# Altium footprint library Common-Parts-Library.PcbLib: 530 footprints (part 1 of 34)
Each footprint in its own frame and in the unit in brackets; x right, y up, seen from the top. Pads: shape width x height; smd on the part's side, far side on the other; paste and mask are expansions set on the pad; w line width, h text height; cw(c..) or ccw(c..) is an arc to the next point about the centre after c.
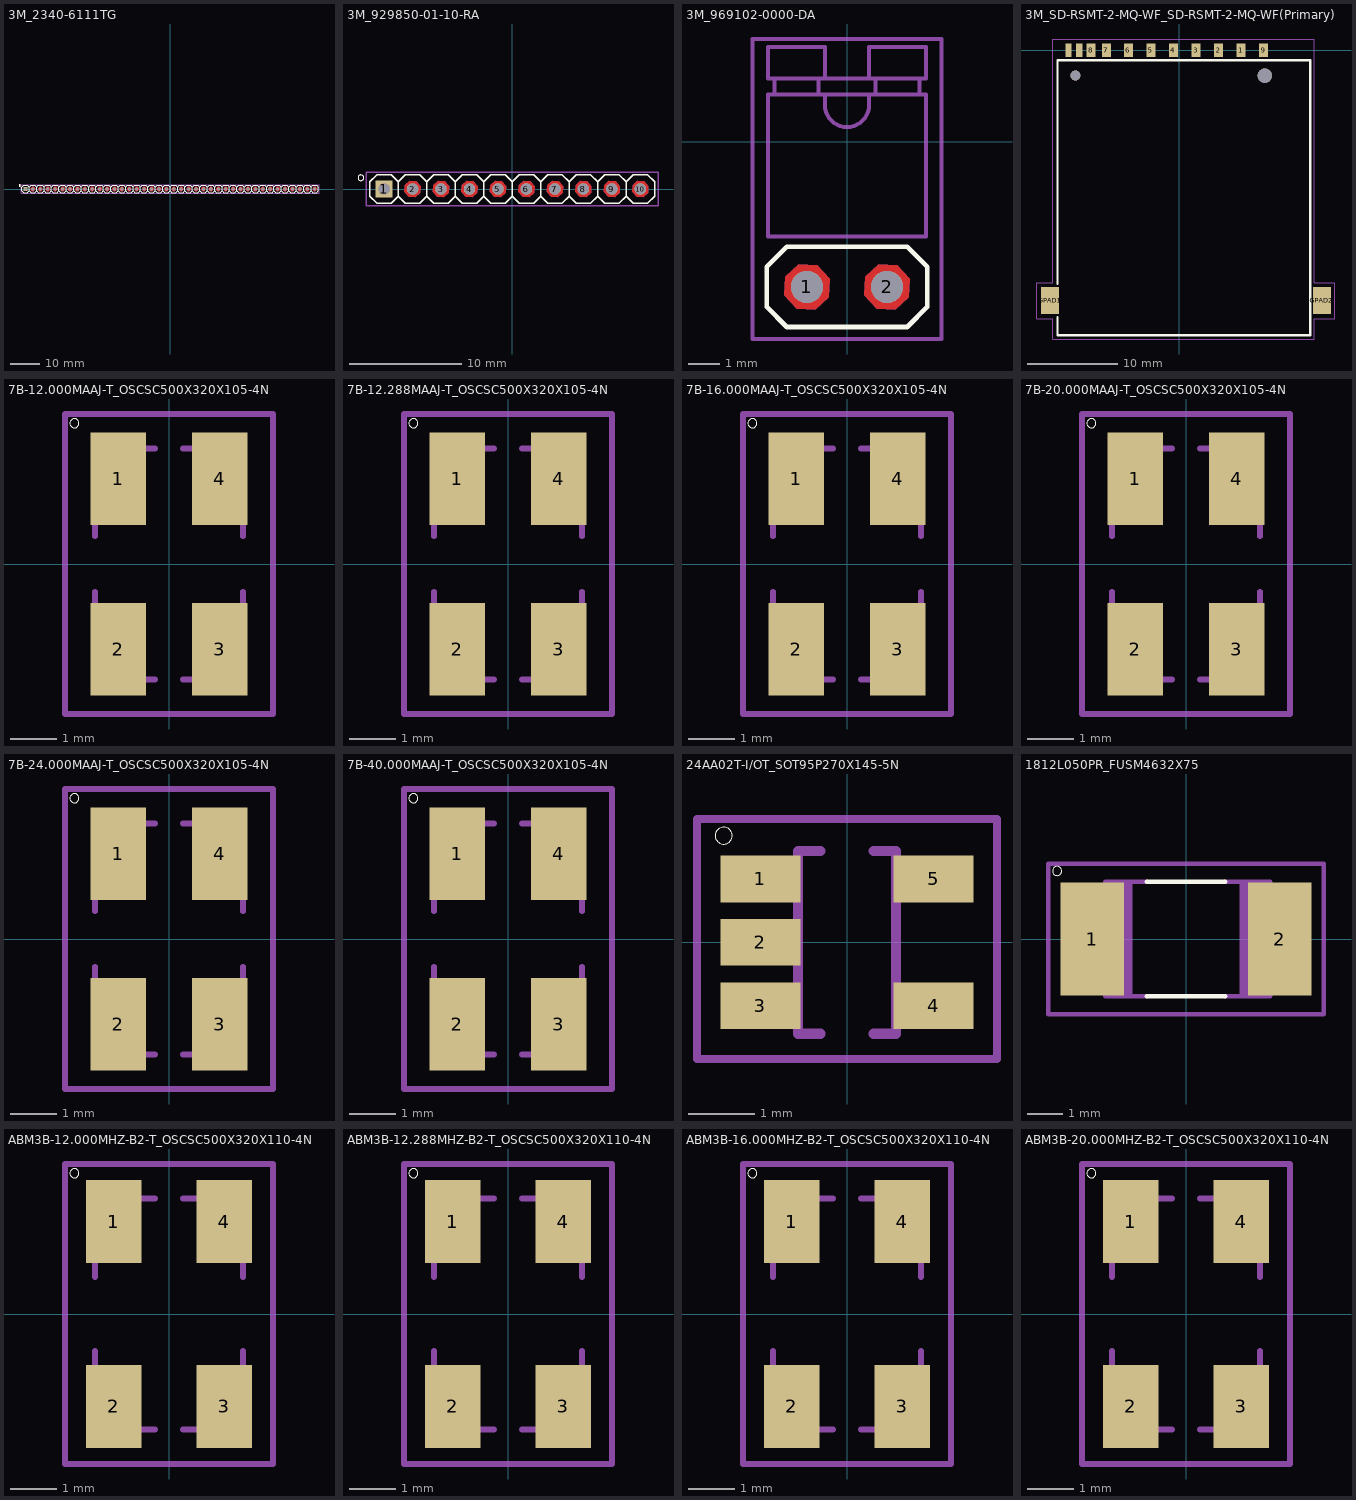
[diagram p0: the footprints below, top view; thin cyan lines are the x and y axes]

## 3M_2340-6111TG [mm]
pads (40):
  rect 1.53x1.53 hole 1.02: 1(-49.53,0)
  round 1.02 hole 1.02: 2(-46.99,0) 3(-44.45,0) 4(-41.91,0) 5(-39.37,0) 6(-36.83,0) 7(-34.29,0) 8(-31.75,0) 9(-29.21,0) 10(-26.67,0) 11(-24.13,0) 12(-21.59,0) 13(-19.05,0) 14(-16.51,0) 15(-13.97,0) 16(-11.43,0) 17(-8.89,0) 18(-6.35,0) 19(-3.81,0) 20(-1.27,0) 21(1.27,0) 22(3.81,0) 23(6.35,0) 24(8.89,0) 25(11.43,0) 26(13.97,0) 27(16.51,0) 28(19.05,0) 29(21.59,0) 30(24.13,0) 31(26.67,0) 32(29.21,0) 33(31.75,0) 34(34.29,0) 35(36.83,0) 36(39.37,0) 37(41.91,0) 38(44.45,0) 39(46.99,0) 40(49.53,0)
Top Layer:
  region: 48.811,-0.262 49.207,-0.693 49.792,-0.719 50.223,-0.323 50.249,0.262 49.853,0.693 49.268,0.719 48.837,0.323
  region: 46.271,-0.262 46.667,-0.693 47.252,-0.719 47.683,-0.323 47.709,0.262 47.313,0.693 46.728,0.719 46.297,0.323
  region: 43.731,-0.262 44.127,-0.693 44.712,-0.719 45.143,-0.323 45.169,0.262 44.773,0.693 44.188,0.719 43.757,0.323
  region: 41.191,-0.262 41.587,-0.693 42.172,-0.719 42.603,-0.323 42.629,0.262 42.233,0.693 41.648,0.719 41.217,0.323
  region: 38.651,-0.262 39.047,-0.693 39.632,-0.719 40.063,-0.323 40.089,0.262 39.693,0.693 39.108,0.719 38.677,0.323
  region: 36.111,-0.262 36.507,-0.693 37.092,-0.719 37.523,-0.323 37.549,0.262 37.153,0.693 36.568,0.719 36.137,0.323
  region: 33.571,-0.262 33.967,-0.693 34.552,-0.719 34.983,-0.323 35.009,0.262 34.613,0.693 34.028,0.719 33.597,0.323
  region: 31.031,-0.262 31.427,-0.693 32.012,-0.719 32.443,-0.323 32.469,0.262 32.073,0.693 31.488,0.719 31.057,0.323
  region: 28.491,-0.262 28.887,-0.693 29.472,-0.719 29.903,-0.323 29.929,0.262 29.533,0.693 28.948,0.719 28.517,0.323
  region: 25.951,-0.262 26.347,-0.693 26.932,-0.719 27.363,-0.323 27.389,0.262 26.993,0.693 26.408,0.719 25.977,0.323
  region: 23.411,-0.262 23.807,-0.693 24.392,-0.719 24.823,-0.323 24.849,0.262 24.453,0.693 23.868,0.719 23.437,0.323
  region: 20.871,-0.262 21.267,-0.693 21.852,-0.719 22.283,-0.323 22.309,0.262 21.913,0.693 21.328,0.719 20.897,0.323
  region: 18.331,-0.262 18.727,-0.693 19.312,-0.719 19.743,-0.323 19.769,0.262 19.373,0.693 18.788,0.719 18.357,0.323
  region: 15.791,-0.262 16.187,-0.693 16.772,-0.719 17.203,-0.323 17.229,0.262 16.833,0.693 16.248,0.719 15.817,0.323
  region: 13.251,-0.262 13.647,-0.693 14.232,-0.719 14.663,-0.323 14.689,0.262 14.293,0.693 13.708,0.719 13.277,0.323
  region: 10.711,-0.262 11.107,-0.693 11.692,-0.719 12.123,-0.323 12.149,0.262 11.753,0.693 11.168,0.719 10.737,0.323
  region: 8.171,-0.262 8.567,-0.693 9.152,-0.719 9.583,-0.323 9.609,0.262 9.213,0.693 8.628,0.719 8.197,0.323
  region: 5.631,-0.262 6.027,-0.693 6.612,-0.719 7.043,-0.323 7.069,0.262 6.673,0.693 6.088,0.719 5.657,0.323
  region: 3.091,-0.262 3.487,-0.693 4.072,-0.719 4.503,-0.323 4.529,0.262 4.133,0.693 3.548,0.719 3.117,0.323
  region: 0.551,-0.262 0.947,-0.693 1.532,-0.719 1.963,-0.323 1.989,0.262 1.593,0.693 1.008,0.719 0.577,0.323
  region: -1.989,-0.262 -1.593,-0.693 -1.008,-0.719 -0.577,-0.323 -0.551,0.262 -0.947,0.693 -1.532,0.719 -1.963,0.323
  region: -4.529,-0.262 -4.133,-0.693 -3.548,-0.719 -3.117,-0.323 -3.091,0.262 -3.487,0.693 -4.072,0.719 -4.503,0.323
  region: -7.069,-0.262 -6.673,-0.693 -6.088,-0.719 -5.657,-0.323 -5.631,0.262 -6.027,0.693 -6.612,0.719 -7.043,0.323
  region: -9.609,-0.262 -9.213,-0.693 -8.628,-0.719 -8.197,-0.323 -8.171,0.262 -8.567,0.693 -9.152,0.719 -9.583,0.323
  region: -12.149,-0.262 -11.753,-0.693 -11.168,-0.719 -10.737,-0.323 -10.711,0.262 -11.107,0.693 -11.692,0.719 -12.123,0.323
  region: -14.689,-0.262 -14.293,-0.693 -13.708,-0.719 -13.277,-0.323 -13.251,0.262 -13.647,0.693 -14.232,0.719 -14.663,0.323
  region: -17.229,-0.262 -16.833,-0.693 -16.248,-0.719 -15.817,-0.323 -15.791,0.262 -16.187,0.693 -16.772,0.719 -17.203,0.323
  region: -19.769,-0.262 -19.373,-0.693 -18.788,-0.719 -18.357,-0.323 -18.331,0.262 -18.727,0.693 -19.312,0.719 -19.743,0.323
  region: -22.309,-0.262 -21.913,-0.693 -21.328,-0.719 -20.897,-0.323 -20.871,0.262 -21.267,0.693 -21.852,0.719 -22.283,0.323
  region: -24.849,-0.262 -24.453,-0.693 -23.868,-0.719 -23.437,-0.323 -23.411,0.262 -23.807,0.693 -24.392,0.719 -24.823,0.323
  region: -27.389,-0.262 -26.993,-0.693 -26.408,-0.719 -25.977,-0.323 -25.951,0.262 -26.347,0.693 -26.932,0.719 -27.363,0.323
  region: -29.929,-0.262 -29.533,-0.693 -28.948,-0.719 -28.517,-0.323 -28.491,0.262 -28.887,0.693 -29.472,0.719 -29.903,0.323
  region: -32.469,-0.262 -32.073,-0.693 -31.488,-0.719 -31.057,-0.323 -31.031,0.262 -31.427,0.693 -32.012,0.719 -32.443,0.323
  region: -35.009,-0.262 -34.613,-0.693 -34.028,-0.719 -33.597,-0.323 -33.571,0.262 -33.967,0.693 -34.552,0.719 -34.983,0.323
  region: -37.549,-0.262 -37.153,-0.693 -36.568,-0.719 -36.137,-0.323 -36.111,0.262 -36.507,0.693 -37.092,0.719 -37.523,0.323
  region: -40.089,-0.262 -39.693,-0.693 -39.108,-0.719 -38.677,-0.323 -38.651,0.262 -39.047,0.693 -39.632,0.719 -40.063,0.323
  region: -42.629,-0.262 -42.233,-0.693 -41.648,-0.719 -41.217,-0.323 -41.191,0.262 -41.587,0.693 -42.172,0.719 -42.603,0.323
  region: -45.169,-0.262 -44.773,-0.693 -44.188,-0.719 -43.757,-0.323 -43.731,0.262 -44.127,0.693 -44.712,0.719 -45.143,0.323
  region: -47.709,-0.262 -47.313,-0.693 -46.728,-0.719 -46.297,-0.323 -46.271,0.262 -46.667,0.693 -47.252,0.719 -47.683,0.323
Bottom Layer:
  region: 48.811,-0.262 49.207,-0.693 49.792,-0.719 50.223,-0.323 50.249,0.262 49.853,0.693 49.268,0.719 48.837,0.323
  region: 46.271,-0.262 46.667,-0.693 47.252,-0.719 47.683,-0.323 47.709,0.262 47.313,0.693 46.728,0.719 46.297,0.323
  region: 43.731,-0.262 44.127,-0.693 44.712,-0.719 45.143,-0.323 45.169,0.262 44.773,0.693 44.188,0.719 43.757,0.323
  region: 41.191,-0.262 41.587,-0.693 42.172,-0.719 42.603,-0.323 42.629,0.262 42.233,0.693 41.648,0.719 41.217,0.323
  region: 38.651,-0.262 39.047,-0.693 39.632,-0.719 40.063,-0.323 40.089,0.262 39.693,0.693 39.108,0.719 38.677,0.323
  region: 36.111,-0.262 36.507,-0.693 37.092,-0.719 37.523,-0.323 37.549,0.262 37.153,0.693 36.568,0.719 36.137,0.323
  region: 33.571,-0.262 33.967,-0.693 34.552,-0.719 34.983,-0.323 35.009,0.262 34.613,0.693 34.028,0.719 33.597,0.323
  region: 31.031,-0.262 31.427,-0.693 32.012,-0.719 32.443,-0.323 32.469,0.262 32.073,0.693 31.488,0.719 31.057,0.323
  region: 28.491,-0.262 28.887,-0.693 29.472,-0.719 29.903,-0.323 29.929,0.262 29.533,0.693 28.948,0.719 28.517,0.323
  region: 25.951,-0.262 26.347,-0.693 26.932,-0.719 27.363,-0.323 27.389,0.262 26.993,0.693 26.408,0.719 25.977,0.323
  region: 23.411,-0.262 23.807,-0.693 24.392,-0.719 24.823,-0.323 24.849,0.262 24.453,0.693 23.868,0.719 23.437,0.323
  region: 20.871,-0.262 21.267,-0.693 21.852,-0.719 22.283,-0.323 22.309,0.262 21.913,0.693 21.328,0.719 20.897,0.323
  region: 18.331,-0.262 18.727,-0.693 19.312,-0.719 19.743,-0.323 19.769,0.262 19.373,0.693 18.788,0.719 18.357,0.323
  region: 15.791,-0.262 16.187,-0.693 16.772,-0.719 17.203,-0.323 17.229,0.262 16.833,0.693 16.248,0.719 15.817,0.323
  region: 13.251,-0.262 13.647,-0.693 14.232,-0.719 14.663,-0.323 14.689,0.262 14.293,0.693 13.708,0.719 13.277,0.323
  region: 10.711,-0.262 11.107,-0.693 11.692,-0.719 12.123,-0.323 12.149,0.262 11.753,0.693 11.168,0.719 10.737,0.323
  region: 8.171,-0.262 8.567,-0.693 9.152,-0.719 9.583,-0.323 9.609,0.262 9.213,0.693 8.628,0.719 8.197,0.323
  region: 5.631,-0.262 6.027,-0.693 6.612,-0.719 7.043,-0.323 7.069,0.262 6.673,0.693 6.088,0.719 5.657,0.323
  region: 3.091,-0.262 3.487,-0.693 4.072,-0.719 4.503,-0.323 4.529,0.262 4.133,0.693 3.548,0.719 3.117,0.323
  region: 0.551,-0.262 0.947,-0.693 1.532,-0.719 1.963,-0.323 1.989,0.262 1.593,0.693 1.008,0.719 0.577,0.323
  region: -1.989,-0.262 -1.593,-0.693 -1.008,-0.719 -0.577,-0.323 -0.551,0.262 -0.947,0.693 -1.532,0.719 -1.963,0.323
  region: -4.529,-0.262 -4.133,-0.693 -3.548,-0.719 -3.117,-0.323 -3.091,0.262 -3.487,0.693 -4.072,0.719 -4.503,0.323
  region: -7.069,-0.262 -6.673,-0.693 -6.088,-0.719 -5.657,-0.323 -5.631,0.262 -6.027,0.693 -6.612,0.719 -7.043,0.323
  region: -9.609,-0.262 -9.213,-0.693 -8.628,-0.719 -8.197,-0.323 -8.171,0.262 -8.567,0.693 -9.152,0.719 -9.583,0.323
  region: -12.149,-0.262 -11.753,-0.693 -11.168,-0.719 -10.737,-0.323 -10.711,0.262 -11.107,0.693 -11.692,0.719 -12.123,0.323
  region: -14.689,-0.262 -14.293,-0.693 -13.708,-0.719 -13.277,-0.323 -13.251,0.262 -13.647,0.693 -14.232,0.719 -14.663,0.323
  region: -17.229,-0.262 -16.833,-0.693 -16.248,-0.719 -15.817,-0.323 -15.791,0.262 -16.187,0.693 -16.772,0.719 -17.203,0.323
  region: -19.769,-0.262 -19.373,-0.693 -18.788,-0.719 -18.357,-0.323 -18.331,0.262 -18.727,0.693 -19.312,0.719 -19.743,0.323
  region: -22.309,-0.262 -21.913,-0.693 -21.328,-0.719 -20.897,-0.323 -20.871,0.262 -21.267,0.693 -21.852,0.719 -22.283,0.323
  region: -24.849,-0.262 -24.453,-0.693 -23.868,-0.719 -23.437,-0.323 -23.411,0.262 -23.807,0.693 -24.392,0.719 -24.823,0.323
  region: -27.389,-0.262 -26.993,-0.693 -26.408,-0.719 -25.977,-0.323 -25.951,0.262 -26.347,0.693 -26.932,0.719 -27.363,0.323
  region: -29.929,-0.262 -29.533,-0.693 -28.948,-0.719 -28.517,-0.323 -28.491,0.262 -28.887,0.693 -29.472,0.719 -29.903,0.323
  region: -32.469,-0.262 -32.073,-0.693 -31.488,-0.719 -31.057,-0.323 -31.031,0.262 -31.427,0.693 -32.012,0.719 -32.443,0.323
  region: -35.009,-0.262 -34.613,-0.693 -34.028,-0.719 -33.597,-0.323 -33.571,0.262 -33.967,0.693 -34.552,0.719 -34.983,0.323
  region: -37.549,-0.262 -37.153,-0.693 -36.568,-0.719 -36.137,-0.323 -36.111,0.262 -36.507,0.693 -37.092,0.719 -37.523,0.323
  region: -40.089,-0.262 -39.693,-0.693 -39.108,-0.719 -38.677,-0.323 -38.651,0.262 -39.047,0.693 -39.632,0.719 -40.063,0.323
  region: -42.629,-0.262 -42.233,-0.693 -41.648,-0.719 -41.217,-0.323 -41.191,0.262 -41.587,0.693 -42.172,0.719 -42.603,0.323
  region: -45.169,-0.262 -44.773,-0.693 -44.188,-0.719 -43.757,-0.323 -43.731,0.262 -44.127,0.693 -44.712,0.719 -45.143,0.323
  region: -47.709,-0.262 -47.313,-0.693 -46.728,-0.719 -46.297,-0.323 -46.271,0.262 -46.667,0.693 -47.252,0.719 -47.683,0.323
Top Overlay:
  drawing of 282 lines, arcs and shapes, not listed
Mechanical 1:
  drawing of 44 lines, arcs and shapes, not listed
Multi-Layer:
  drawing of 39 lines, arcs and shapes, not listed

## 3M_929850-01-10-RA [mm]
pads (10):
  rect 1.53x1.53 hole 1.02: 1(-11.43,0)
  round 1.02 hole 1.02: 2(-8.89,0) 3(-6.35,0) 4(-3.81,0) 5(-1.27,0) 6(1.27,0) 7(3.81,0) 8(6.35,0) 9(8.89,0) 10(11.43,0)
Top Layer:
  region: 10.711,-0.262 11.107,-0.693 11.692,-0.719 12.123,-0.323 12.149,0.262 11.753,0.693 11.168,0.719 10.737,0.323
  region: 8.171,-0.262 8.567,-0.693 9.152,-0.719 9.583,-0.323 9.609,0.262 9.213,0.693 8.628,0.719 8.197,0.323
  region: 5.631,-0.262 6.027,-0.693 6.612,-0.719 7.043,-0.323 7.069,0.262 6.673,0.693 6.088,0.719 5.657,0.323
  region: 3.091,-0.262 3.487,-0.693 4.072,-0.719 4.503,-0.323 4.529,0.262 4.133,0.693 3.548,0.719 3.117,0.323
  region: 0.551,-0.262 0.947,-0.693 1.532,-0.719 1.963,-0.323 1.989,0.262 1.593,0.693 1.008,0.719 0.577,0.323
  region: -1.989,-0.262 -1.593,-0.693 -1.008,-0.719 -0.577,-0.323 -0.551,0.262 -0.947,0.693 -1.532,0.719 -1.963,0.323
  region: -4.529,-0.262 -4.133,-0.693 -3.548,-0.719 -3.117,-0.323 -3.091,0.262 -3.487,0.693 -4.072,0.719 -4.503,0.323
  region: -7.069,-0.262 -6.673,-0.693 -6.088,-0.719 -5.657,-0.323 -5.631,0.262 -6.027,0.693 -6.612,0.719 -7.043,0.323
  region: -9.609,-0.262 -9.213,-0.693 -8.628,-0.719 -8.197,-0.323 -8.171,0.262 -8.567,0.693 -9.152,0.719 -9.583,0.323
Bottom Layer:
  region: 10.711,-0.262 11.107,-0.693 11.692,-0.719 12.123,-0.323 12.149,0.262 11.753,0.693 11.168,0.719 10.737,0.323
  region: 8.171,-0.262 8.567,-0.693 9.152,-0.719 9.583,-0.323 9.609,0.262 9.213,0.693 8.628,0.719 8.197,0.323
  region: 5.631,-0.262 6.027,-0.693 6.612,-0.719 7.043,-0.323 7.069,0.262 6.673,0.693 6.088,0.719 5.657,0.323
  region: 3.091,-0.262 3.487,-0.693 4.072,-0.719 4.503,-0.323 4.529,0.262 4.133,0.693 3.548,0.719 3.117,0.323
  region: 0.551,-0.262 0.947,-0.693 1.532,-0.719 1.963,-0.323 1.989,0.262 1.593,0.693 1.008,0.719 0.577,0.323
  region: -1.989,-0.262 -1.593,-0.693 -1.008,-0.719 -0.577,-0.323 -0.551,0.262 -0.947,0.693 -1.532,0.719 -1.963,0.323
  region: -4.529,-0.262 -4.133,-0.693 -3.548,-0.719 -3.117,-0.323 -3.091,0.262 -3.487,0.693 -4.072,0.719 -4.503,0.323
  region: -7.069,-0.262 -6.673,-0.693 -6.088,-0.719 -5.657,-0.323 -5.631,0.262 -6.027,0.693 -6.612,0.719 -7.043,0.323
  region: -9.609,-0.262 -9.213,-0.693 -8.628,-0.719 -8.197,-0.323 -8.171,0.262 -8.567,0.693 -9.152,0.719 -9.583,0.323
Top Overlay:
  circle w0: c-13.5,1 r0.254
  lines w0.152: -10.16,-0.635 -9.525,-1.27 -8.255,-1.27 -7.62,-0.635 ; -10.16,-0.635 -10.795,-1.27 -12.065,-1.27 -12.7,-0.635 -12.7,0.635 -12.065,1.27 -10.795,1.27 -10.16,0.635 ; -10.16,-0.635 -10.16,0.635 ; -10.16,0.635 -9.525,1.27 -8.255,1.27 -7.62,0.635 ; -7.62,-0.635 -7.62,0.635 ; -7.62,-0.635 -6.985,-1.27 -5.715,-1.27 -5.08,-0.635 ; -7.62,0.635 -6.985,1.27 -5.715,1.27 -5.08,0.635 ; -5.08,-0.635 -4.445,-1.27 -3.175,-1.27 -2.54,-0.635 ; -5.08,-0.635 -5.08,0.635 ; -5.08,0.635 -4.445,1.27 -3.175,1.27 -2.54,0.635 ; -2.54,-0.635 -1.905,-1.27 -0.635,-1.27 0,-0.635 ; -2.54,-0.635 -2.54,0.635 ; -2.54,0.635 -1.905,1.27 -0.635,1.27 0,0.635 ; 0,-0.635 0,0.635 ; 0,-0.635 0.635,-1.27 1.905,-1.27 2.54,-0.635 ; 0,0.635 0.635,1.27 1.905,1.27 2.54,0.635 ; 2.54,-0.635 3.175,-1.27 4.445,-1.27 5.08,-0.635 ; 2.54,-0.635 2.54,0.635 ; 2.54,0.635 3.175,1.27 4.445,1.27 5.08,0.635 ; 5.08,-0.635 5.715,-1.27 6.985,-1.27 7.62,-0.635 ; 5.08,-0.635 5.08,0.635 ; 5.08,0.635 5.715,1.27 6.985,1.27 7.62,0.635 ; 7.62,-0.635 7.62,0.635 ; 7.62,-0.635 8.255,-1.27 9.525,-1.27 10.16,-0.635 ; 7.62,0.635 8.255,1.27 9.525,1.27 10.16,0.635 ; 10.16,-0.635 10.795,-1.27 12.065,-1.27 12.7,-0.635 12.7,0.635 12.065,1.27 10.795,1.27 10.16,0.635 ; 10.16,-0.635 10.16,0.635
Mechanical 1:
  region: 11.202,0.254 11.684,0.254 11.684,-0.255 11.202,-0.255
  region: -11.702,0.254 -11.176,0.254 -11.176,-0.254 -11.702,-0.254
  region: -9.172,0.254 -8.636,0.254 -8.636,-0.255 -9.172,-0.255
  region: -6.614,0.254 -6.096,0.254 -6.096,-0.254 -6.614,-0.254
  region: -4.074,0.254 -3.556,0.254 -3.556,-0.255 -4.074,-0.255
  region: -1.529,0.254 -1.016,0.254 -1.016,-0.255 -1.529,-0.255
  region: 1.018,0.254 1.524,0.254 1.524,-0.255 1.018,-0.255
  region: 3.562,0.254 4.064,0.254 4.064,-0.254 3.562,-0.254
  region: 6.107,0.254 6.604,0.254 6.604,-0.254 6.107,-0.254
  region: 8.65,0.254 9.144,0.254 9.144,-0.254 8.65,-0.254
  lines w0.127: -13,-1.5 -13,1.5 13,1.5 13,-1.5 -13,-1.5
Multi-Layer:
  region: 10.711,-0.262 11.107,-0.693 11.692,-0.719 12.123,-0.323 12.149,0.262 11.753,0.693 11.168,0.719 10.737,0.323
  region: 8.171,-0.262 8.567,-0.693 9.152,-0.719 9.583,-0.323 9.609,0.262 9.213,0.693 8.628,0.719 8.197,0.323
  region: 5.631,-0.262 6.027,-0.693 6.612,-0.719 7.043,-0.323 7.069,0.262 6.673,0.693 6.088,0.719 5.657,0.323
  region: 3.091,-0.262 3.487,-0.693 4.072,-0.719 4.503,-0.323 4.529,0.262 4.133,0.693 3.548,0.719 3.117,0.323
  region: 0.551,-0.262 0.947,-0.693 1.532,-0.719 1.963,-0.323 1.989,0.262 1.593,0.693 1.008,0.719 0.577,0.323
  region: -1.989,-0.262 -1.593,-0.693 -1.008,-0.719 -0.577,-0.323 -0.551,0.262 -0.947,0.693 -1.532,0.719 -1.963,0.323
  region: -4.529,-0.262 -4.133,-0.693 -3.548,-0.719 -3.117,-0.323 -3.091,0.262 -3.487,0.693 -4.072,0.719 -4.503,0.323
  region: -7.069,-0.262 -6.673,-0.693 -6.088,-0.719 -5.657,-0.323 -5.631,0.262 -6.027,0.693 -6.612,0.719 -7.043,0.323
  region: -9.609,-0.262 -9.213,-0.693 -8.628,-0.719 -8.197,-0.323 -8.171,0.262 -8.567,0.693 -9.152,0.719 -9.583,0.323

## 3M_969102-0000-DA [mil]
pads (2):
  round 40 hole 40: 1(-50,-181.1) 2(50,-181.1)
Top Layer:
  region: -78.19,-191.36 -62.68,-208.29 -39.74,-209.29 -22.81,-193.78 -21.81,-170.84 -37.32,-153.91 -60.26,-152.91 -77.19,-168.42
  region: 21.81,-191.36 37.32,-208.29 60.26,-209.29 77.19,-193.78 78.19,-170.84 62.68,-153.91 39.74,-152.91 22.81,-168.42
Bottom Layer:
  region: -78.19,-191.36 -62.68,-208.29 -39.74,-209.29 -22.81,-193.78 -21.81,-170.84 -37.32,-153.91 -60.26,-152.91 -77.19,-168.42
  region: 21.81,-191.36 37.32,-208.29 60.26,-209.29 77.19,-193.78 78.19,-170.84 62.68,-153.91 39.74,-152.91 22.81,-168.42
Top Overlay:
  lines w6: -100,-206.1 -100,-156.1 -75,-131.1 75,-131.1 100,-156.1 100,-206.1 75,-231.1 -75,-231.1 -100,-206.1
Mechanical 1:
  region: -60.18,-191.28 -60.18,-171.2 -39.91,-171.2 -39.91,-191.28
  region: 39.87,-191.23 39.87,-171.3 60.19,-171.3 60.19,-191.23
  lines w5: -90.55,59.06 -35.43,59.06 ; -90.55,59.06 -98.43,59.06 -98.43,-118.11 98.43,-118.11 98.43,59.06 90.55,59.06 ; -90.55,59.06 -90.55,78.74 ; -90.55,78.74 -35.43,78.74 ; -90.55,78.74 -98.43,78.74 -98.43,118.11 -27.56,118.11 -27.56,78.74 ; -35.43,59.06 -35.43,78.74 ; -35.43,59.06 -27.56,59.06 ; -35.43,78.74 -27.56,78.74 ; -27.56,59.06 27.56,59.06 ; -27.56,59.06 -27.56,45.67 ccw(c0,45.67) 0,18.11 ccw(c0,45.67) 27.56,45.67 27.56,59.06 ; -27.56,78.74 27.56,78.74 ; 27.56,59.06 35.43,59.06 ; 27.56,78.74 35.43,78.74 ; 27.56,78.74 27.56,118.11 98.43,118.11 98.43,78.74 90.55,78.74 ; 35.43,59.06 35.43,78.74 ; 35.43,59.06 90.55,59.06 ; 35.43,78.74 90.55,78.74 ; 90.55,59.06 90.55,78.74 ; -118.11,-246.06 -118.11,127.95 118.11,127.95 118.11,-246.06 -118.11,-246.06
Multi-Layer:
  region: -78.19,-191.36 -62.68,-208.29 -39.74,-209.29 -22.81,-193.78 -21.81,-170.84 -37.32,-153.91 -60.26,-152.91 -77.19,-168.42
  region: 21.81,-191.36 37.32,-208.29 60.26,-209.29 77.19,-193.78 78.19,-170.84 62.68,-153.91 39.74,-152.91 22.81,-168.42

## 3M_SD-RSMT-2-MQ-WF_SD-RSMT-2-MQ-WF(Primary) [mm]
pads (15):
  rect 1x1.5 smd: 1(6.88,0) 2(4.38,0) 3(1.88,0) 4(-0.62,0) 5(-3.12,0) 6(-5.62,0) 7(-8.05,0) 8(-9.75,0) 9(9.38,0)
  rect 0.7x1.5 smd: CDI(-11.05,0) WP(-12.25,0)
  rect 2x3 smd: GPAD1(-14.28,-27.75) GPAD2(15.82,-27.75)
  round 1.1 hole 1.1 unplated: None(-11.5,-2.8)
  round 1.6 hole 1.6 unplated: None(9.5,-2.8)
Top Overlay:
  lines w0.254: -13.47,-29.6 -13.47,-31.6 14.53,-31.6 14.53,-1.1 -13.47,-1.1 -13.47,-25.9
Mechanical 1:
  lines w0.127: -15.75,-29.75 -14,-29.75 -14,-32 15,-32 15,-29.75 17.25,-29.75 17.25,-25.75 15,-25.75 15,1.25 -14,1.25 -14,-25.75 -15.75,-25.75 -15.75,-29.75

## 7B-12.000MAAJ-T_OSCSC500X320X105-4N [mm]
pads (4):
  rect 1.2x2 smd: 1(-1.1,1.85) 2(-1.1,-1.85) 3(1.1,-1.85) 4(1.1,1.85)
Top Overlay:
  circle w0: c-2.05,3.05 r0.1
Mechanical 1:
  lines w0.127: -1.6,-0.6 -1.6,-2.2 cw(c-1.6,-2.5) -1.3,-2.5 -0.3,-2.5 ; -1.6,0.6 -1.6,2.2 ccw(c-1.6,2.5) -1.3,2.5 -0.3,2.5 ; 0.3,-2.5 1.3,-2.5 cw(c1.6,-2.5) 1.6,-2.2 1.6,-0.6 ; 0.3,2.5 1.3,2.5 ccw(c1.6,2.5) 1.6,2.2 1.6,0.6 ; -2.25,-3.25 2.25,-3.25 2.25,3.25 -2.25,3.25 -2.25,-3.25

## 7B-12.288MAAJ-T_OSCSC500X320X105-4N [mm]
pads (4):
  rect 1.2x2 smd: 1(-1.1,1.85) 2(-1.1,-1.85) 3(1.1,-1.85) 4(1.1,1.85)
Top Overlay:
  circle w0: c-2.05,3.05 r0.1
Mechanical 1:
  lines w0.127: -1.6,-0.6 -1.6,-2.2 cw(c-1.6,-2.5) -1.3,-2.5 -0.3,-2.5 ; -1.6,0.6 -1.6,2.2 ccw(c-1.6,2.5) -1.3,2.5 -0.3,2.5 ; 0.3,-2.5 1.3,-2.5 cw(c1.6,-2.5) 1.6,-2.2 1.6,-0.6 ; 0.3,2.5 1.3,2.5 ccw(c1.6,2.5) 1.6,2.2 1.6,0.6 ; -2.25,-3.25 2.25,-3.25 2.25,3.25 -2.25,3.25 -2.25,-3.25

## 7B-16.000MAAJ-T_OSCSC500X320X105-4N [mm]
pads (4):
  rect 1.2x2 smd: 1(-1.1,1.85) 2(-1.1,-1.85) 3(1.1,-1.85) 4(1.1,1.85)
Top Overlay:
  circle w0: c-2.05,3.05 r0.1
Mechanical 1:
  lines w0.127: -1.6,-0.6 -1.6,-2.2 cw(c-1.6,-2.5) -1.3,-2.5 -0.3,-2.5 ; -1.6,0.6 -1.6,2.2 ccw(c-1.6,2.5) -1.3,2.5 -0.3,2.5 ; 0.3,-2.5 1.3,-2.5 cw(c1.6,-2.5) 1.6,-2.2 1.6,-0.6 ; 0.3,2.5 1.3,2.5 ccw(c1.6,2.5) 1.6,2.2 1.6,0.6 ; -2.25,-3.25 2.25,-3.25 2.25,3.25 -2.25,3.25 -2.25,-3.25

## 7B-20.000MAAJ-T_OSCSC500X320X105-4N [mm]
pads (4):
  rect 1.2x2 smd: 1(-1.1,1.85) 2(-1.1,-1.85) 3(1.1,-1.85) 4(1.1,1.85)
Top Overlay:
  circle w0: c-2.05,3.05 r0.1
Mechanical 1:
  lines w0.127: -1.6,-0.6 -1.6,-2.2 cw(c-1.6,-2.5) -1.3,-2.5 -0.3,-2.5 ; -1.6,0.6 -1.6,2.2 ccw(c-1.6,2.5) -1.3,2.5 -0.3,2.5 ; 0.3,-2.5 1.3,-2.5 cw(c1.6,-2.5) 1.6,-2.2 1.6,-0.6 ; 0.3,2.5 1.3,2.5 ccw(c1.6,2.5) 1.6,2.2 1.6,0.6 ; -2.25,-3.25 2.25,-3.25 2.25,3.25 -2.25,3.25 -2.25,-3.25

## 7B-24.000MAAJ-T_OSCSC500X320X105-4N [mm]
pads (4):
  rect 1.2x2 smd: 1(-1.1,1.85) 2(-1.1,-1.85) 3(1.1,-1.85) 4(1.1,1.85)
Top Overlay:
  circle w0: c-2.05,3.05 r0.1
Mechanical 1:
  lines w0.127: -1.6,-0.6 -1.6,-2.2 cw(c-1.6,-2.5) -1.3,-2.5 -0.3,-2.5 ; -1.6,0.6 -1.6,2.2 ccw(c-1.6,2.5) -1.3,2.5 -0.3,2.5 ; 0.3,-2.5 1.3,-2.5 cw(c1.6,-2.5) 1.6,-2.2 1.6,-0.6 ; 0.3,2.5 1.3,2.5 ccw(c1.6,2.5) 1.6,2.2 1.6,0.6 ; -2.25,-3.25 2.25,-3.25 2.25,3.25 -2.25,3.25 -2.25,-3.25

## 7B-40.000MAAJ-T_OSCSC500X320X105-4N [mm]
pads (4):
  rect 1.2x2 smd: 1(-1.1,1.85) 2(-1.1,-1.85) 3(1.1,-1.85) 4(1.1,1.85)
Top Overlay:
  circle w0: c-2.05,3.05 r0.1
Mechanical 1:
  lines w0.127: -1.6,-0.6 -1.6,-2.2 cw(c-1.6,-2.5) -1.3,-2.5 -0.3,-2.5 ; -1.6,0.6 -1.6,2.2 ccw(c-1.6,2.5) -1.3,2.5 -0.3,2.5 ; 0.3,-2.5 1.3,-2.5 cw(c1.6,-2.5) 1.6,-2.2 1.6,-0.6 ; 0.3,2.5 1.3,2.5 ccw(c1.6,2.5) 1.6,2.2 1.6,0.6 ; -2.25,-3.25 2.25,-3.25 2.25,3.25 -2.25,3.25 -2.25,-3.25

## 24AA02T-I/OT_SOT95P270X145-5N [mm]
pads (5):
  rect 1.2x0.7 smd: 1(-1.3,0.95) 2(-1.3,0) 3(-1.3,-0.95) 4(1.3,-0.95) 5(1.3,0.95)
Top Overlay:
  circle w0: c-1.85,1.6 r0.127
Mechanical 1:
  region: 1.425,1.2 1.425,0.702 0.777,0.702 0.777,1.2
  region: 1.427,-0.702 1.427,-1.2 0.775,-1.2 0.775,-0.702
  region: -0.775,-0.7 -0.775,-1.203 -1.428,-1.203 -1.428,-0.7
  region: -0.775,0.25 -0.775,-0.251 -1.426,-0.251 -1.426,0.25
  region: -0.777,1.202 -0.777,0.699 -1.426,0.699 -1.426,1.202
  lines w0.127: -2.25,-1.75 2.25,-1.75 2.25,1.85 -2.25,1.85 -2.25,-1.75
  lines w0.152: -0.735,-1.372 -0.735,1.372 ; -0.7,-1.372 -0.4,-1.372 ; -0.7,1.372 -0.4,1.372 ; 0.4,-1.372 0.7,-1.372 ; 0.4,1.372 0.7,1.372 ; 0.735,-1.372 0.735,1.372

## 1812L050PR_FUSM4632X75 [mm]
pads (2):
  rect 1.78x3.15 smd: 1(-2.615,0) 2(2.615,0)
Top Overlay:
  circle w0: c-3.6,1.9 r0.127
  lines w0.127: -1.1,-1.6 1.1,-1.6 ; -1.1,1.6 1.1,1.6
Mechanical 1:
  region: 1.5,1.6 1.5,-1.6 2.35,-1.6 2.35,-0.5 2.337,-0.5 2.311,-0.499 2.285,-0.496 2.259,-0.492 2.233,-0.486 2.208,-0.48 2.183,-0.471 2.159,-0.462 2.135,-0.451 2.111,-0.44 2.089,-0.426 2.067,-0.412 2.046,-0.397 2.025,-0.38 2.006,-0.363 1.987,-0.344 1.97,-0.325 1.953,-0.304 1.938,-0.283 1.924,-0.261 1.91,-0.239 1.899,-0.215 1.888,-0.191 1.879,-0.167 1.87,-0.142 1.864,-0.117 1.858,-0.091 1.854,-0.065 1.851,-0.039 1.85,-0.013 1.85,0 1.85,0.013 1.851,0.039 1.854,0.065 1.858,0.091 1.864,0.117 1.87,0.142 1.879,0.167 1.888,0.191 1.899,0.215 1.91,0.239 1.924,0.261 1.938,0.283 1.953,0.304 1.97,0.325 1.987,0.344 2.006,0.363 2.025,0.38 2.046,0.397 2.067,0.412 2.089,0.426 2.111,0.44 2.135,0.451 2.159,0.462 2.183,0.471 2.208,0.48 2.233,0.486 2.259,0.492 2.285,0.496 2.311,0.499 2.337,0.5 2.35,0.5 2.35,1.6
  region: -1.5,1.6 -2.25,1.6 -2.25,0.5 -2.237,0.5 -2.211,0.499 -2.185,0.496 -2.159,0.492 -2.133,0.486 -2.108,0.48 -2.083,0.471 -2.059,0.462 -2.035,0.451 -2.011,0.44 -1.989,0.426 -1.967,0.412 -1.946,0.397 -1.925,0.38 -1.906,0.363 -1.887,0.344 -1.87,0.325 -1.853,0.304 -1.838,0.283 -1.824,0.261 -1.81,0.239 -1.799,0.215 -1.788,0.191 -1.779,0.167 -1.77,0.142 -1.764,0.117 -1.758,0.091 -1.754,0.065 -1.751,0.039 -1.75,0.013 -1.75,0 -1.75,-0.013 -1.751,-0.039 -1.754,-0.065 -1.758,-0.091 -1.764,-0.117 -1.77,-0.142 -1.779,-0.167 -1.788,-0.191 -1.799,-0.215 -1.81,-0.239 -1.824,-0.261 -1.838,-0.283 -1.853,-0.304 -1.87,-0.325 -1.887,-0.344 -1.906,-0.363 -1.925,-0.38 -1.946,-0.397 -1.967,-0.412 -1.989,-0.426 -2.011,-0.44 -2.035,-0.451 -2.059,-0.462 -2.083,-0.471 -2.108,-0.48 -2.133,-0.486 -2.159,-0.492 -2.185,-0.496 -2.211,-0.499 -2.237,-0.5 -2.25,-0.5 -2.25,-1.6 -1.5,-1.6
  lines w0.127: -1.1,-1.6 -2.25,-1.6 -2.25,-0.5 ccw(c-2.25,0) -2.25,0.5 -2.25,1.6 -1.1,1.6 ; 1.1,-1.6 2.35,-1.6 2.35,-0.5 cw(c2.35,0) 2.35,0.5 2.35,1.6 1.1,1.6 ; -3.85,-2.1 3.85,-2.1 3.85,2.1 -3.85,2.1 -3.85,-2.1

## ABM3B-12.000MHZ-B2-T_OSCSC500X320X110-4N [mm]
pads (4):
  rect 1.2x1.8 smd: 1(-1.2,2) 2(-1.2,-2) 3(1.2,-2) 4(1.2,2)
Top Overlay:
  circle w0: c-2.05,3.05 r0.1
Mechanical 1:
  lines w0.127: -1.6,-0.8 -1.6,-2.2 cw(c-1.6,-2.5) -1.3,-2.5 -0.3,-2.5 ; -1.6,0.8 -1.6,2.2 ccw(c-1.6,2.5) -1.3,2.5 -0.3,2.5 ; 0.3,-2.5 1.3,-2.5 cw(c1.6,-2.5) 1.6,-2.2 1.6,-0.8 ; 0.3,2.5 1.3,2.5 ccw(c1.6,2.5) 1.6,2.2 1.6,0.8 ; -2.25,-3.25 2.25,-3.25 2.25,3.25 -2.25,3.25 -2.25,-3.25

## ABM3B-12.288MHZ-B2-T_OSCSC500X320X110-4N [mm]
pads (4):
  rect 1.2x1.8 smd: 1(-1.2,2) 2(-1.2,-2) 3(1.2,-2) 4(1.2,2)
Top Overlay:
  circle w0: c-2.05,3.05 r0.1
Mechanical 1:
  lines w0.127: -1.6,-0.8 -1.6,-2.2 cw(c-1.6,-2.5) -1.3,-2.5 -0.3,-2.5 ; -1.6,0.8 -1.6,2.2 ccw(c-1.6,2.5) -1.3,2.5 -0.3,2.5 ; 0.3,-2.5 1.3,-2.5 cw(c1.6,-2.5) 1.6,-2.2 1.6,-0.8 ; 0.3,2.5 1.3,2.5 ccw(c1.6,2.5) 1.6,2.2 1.6,0.8 ; -2.25,-3.25 2.25,-3.25 2.25,3.25 -2.25,3.25 -2.25,-3.25

## ABM3B-16.000MHZ-B2-T_OSCSC500X320X110-4N [mm]
pads (4):
  rect 1.2x1.8 smd: 1(-1.2,2) 2(-1.2,-2) 3(1.2,-2) 4(1.2,2)
Top Overlay:
  circle w0: c-2.05,3.05 r0.1
Mechanical 1:
  lines w0.127: -1.6,-0.8 -1.6,-2.2 cw(c-1.6,-2.5) -1.3,-2.5 -0.3,-2.5 ; -1.6,0.8 -1.6,2.2 ccw(c-1.6,2.5) -1.3,2.5 -0.3,2.5 ; 0.3,-2.5 1.3,-2.5 cw(c1.6,-2.5) 1.6,-2.2 1.6,-0.8 ; 0.3,2.5 1.3,2.5 ccw(c1.6,2.5) 1.6,2.2 1.6,0.8 ; -2.25,-3.25 2.25,-3.25 2.25,3.25 -2.25,3.25 -2.25,-3.25

## ABM3B-20.000MHZ-B2-T_OSCSC500X320X110-4N [mm]
pads (4):
  rect 1.2x1.8 smd: 1(-1.2,2) 2(-1.2,-2) 3(1.2,-2) 4(1.2,2)
Top Overlay:
  circle w0: c-2.05,3.05 r0.1
Mechanical 1:
  lines w0.127: -1.6,-0.8 -1.6,-2.2 cw(c-1.6,-2.5) -1.3,-2.5 -0.3,-2.5 ; -1.6,0.8 -1.6,2.2 ccw(c-1.6,2.5) -1.3,2.5 -0.3,2.5 ; 0.3,-2.5 1.3,-2.5 cw(c1.6,-2.5) 1.6,-2.2 1.6,-0.8 ; 0.3,2.5 1.3,2.5 ccw(c1.6,2.5) 1.6,2.2 1.6,0.8 ; -2.25,-3.25 2.25,-3.25 2.25,3.25 -2.25,3.25 -2.25,-3.25